# EAGLE library part IC_DS2782 (library akita)
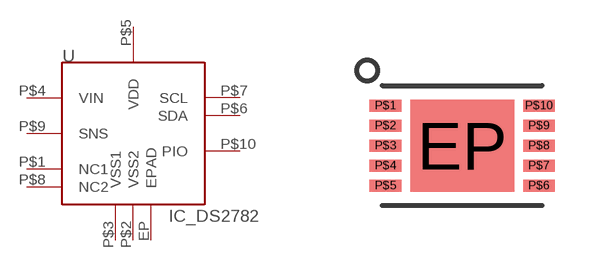
[diagram p127: symbol with the pads of TDFN10EP; footprint TDFN10EP]

Designator prefix U

## IC_DS2782G+  [TDFN10EP]
EP  EPAD
P$1  NC1
P$2  VSS2
P$3  VSS1
P$4  VIN
P$5  VDD
P$6  SDA
P$7  SCL
P$8  NC2
P$9  SNS
P$10  PIO

## Footprint TDFN10EP (pad centres in mm)
smd 2.6 x 2.3: EP 0,0
smd 0.79 x 0.3: P$1 -1.92,1; P$2 -1.92,0.5; P$3 -1.92,0; P$4 -1.92,-0.5; P$5 -1.92,-1; P$6 1.92,-1; P$7 1.92,-0.5; P$8 1.92,0; P$9 1.92,0.5; P$10 1.92,1